# EAGLE library part RFM22B_SMD1-2 (library rfm22b_me)
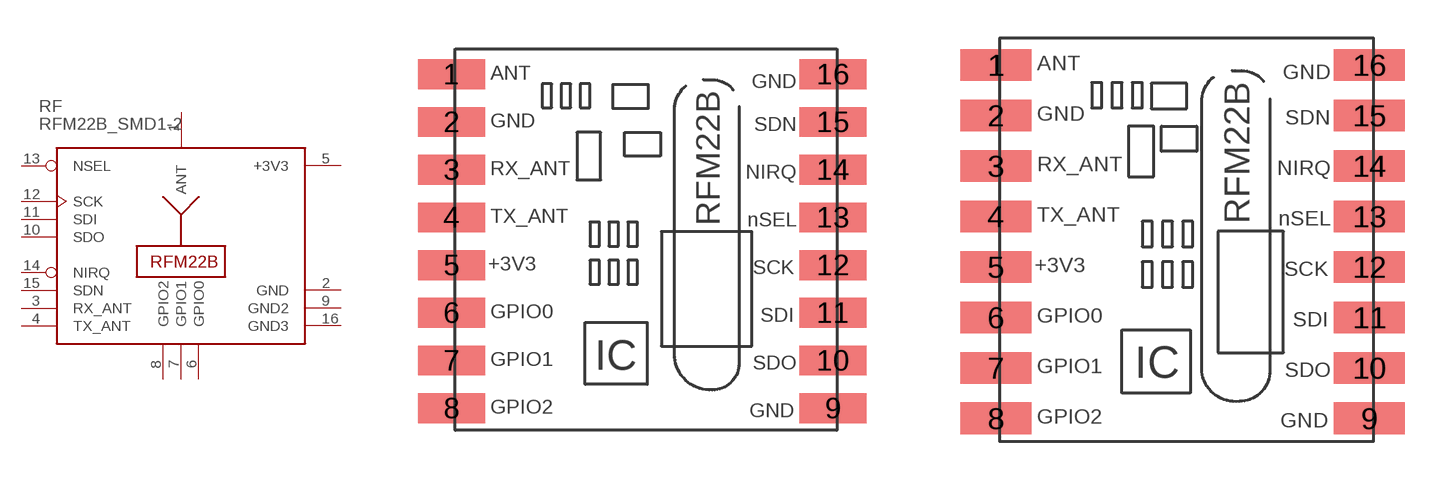
[diagram p2: symbol with the pads of RFM22B; footprints RFM22B, RFM22B_SMALL]

Designator prefix RF

## RFM22B_SMD1-2_SMD_S1-2  [RFM22B]
1  ANT
2  GND  sup
3  RX_ANT  in
4  TX_ANT  in
5  +3V3  sup
6  GPIO0
7  GPIO1
8  GPIO2
9  GND2  sup
10  SDO  out
11  SDI  in
12  SCK  in
13  NSEL  in
14  NIRQ  out
15  SDN  in
16  GND3  sup

## RFM22B_SMD1-2_SMD_S1-2_SMALL  [RFM22B_SMALL]
Pads as for RFM22B

## Footprint RFM22B (pad centres in mm)
smd 2.8 x 1.25: 1 -10,6; 2 -10,4; 3 -10,2; 4 -10,0; 5 -10,-2; 6 -10,-4; 7 -10,-6; 8 -10,-8; 9 6,-8; 10 6,-6; 11 6,-4; 12 6,-2; 13 6,0; 14 6,2; 15 6,4; 16 6,6

## Footprint RFM22B_SMALL (pad centres in mm)
smd 2.8 x 1.25: 1 -8.73,6; 2 -8.73,4; 3 -8.73,2; 4 -8.73,0; 5 -8.73,-2; 6 -8.73,-4; 7 -8.73,-6; 8 -8.73,-8; 9 6.07,-8; 10 6.07,-6; 11 6.07,-4; 12 6.07,-2; 13 6.07,0; 14 6.07,2; 15 6.07,4; 16 6.07,6